# EAGLE library part RPCM4CONNECTOR (library RPCM4Connector)
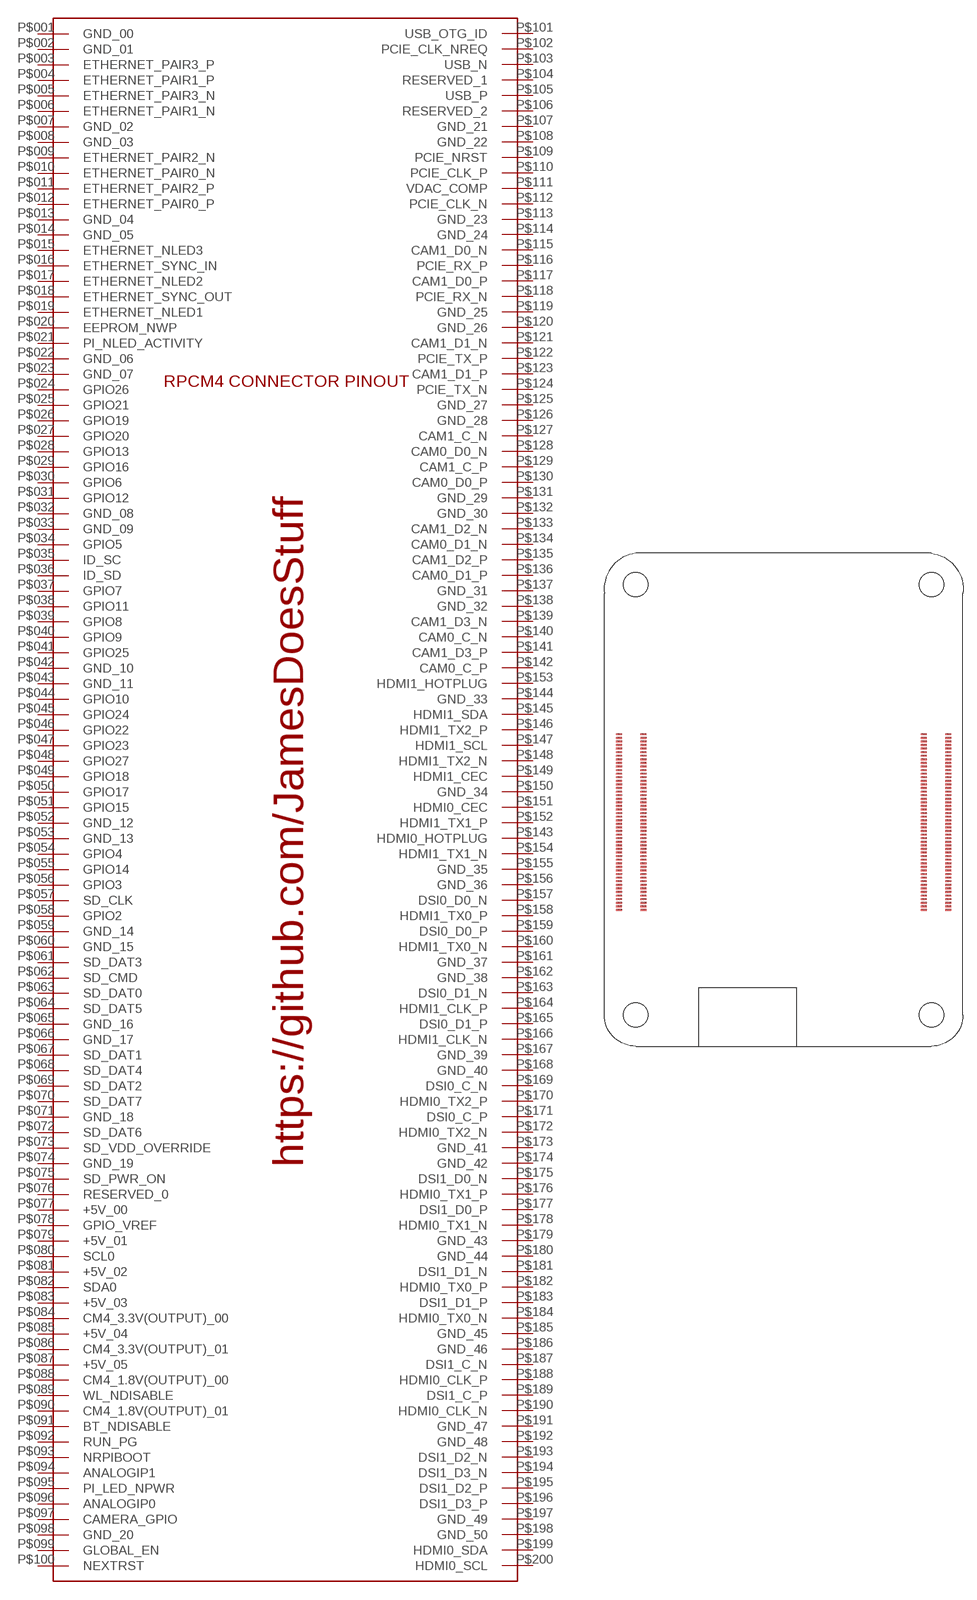
[diagram p0: symbol with the pads of RPCM4CONNECTOR; footprint RPCM4CONNECTOR]

Designator prefix -

## RPCM4CONNECTOR  [RPCM4CONNECTOR]
P$001  GND_00
P$002  GND_01
P$003  ETHERNET_PAIR3_P
P$004  ETHERNET_PAIR1_P
P$005  ETHERNET_PAIR3_N
P$006  ETHERNET_PAIR1_N
P$007  GND_02
P$008  GND_03
P$009  ETHERNET_PAIR2_N
P$010  ETHERNET_PAIR0_N
P$011  ETHERNET_PAIR2_P
P$012  ETHERNET_PAIR0_P
P$013  GND_04
P$014  GND_05
P$015  ETHERNET_NLED3
P$016  ETHERNET_SYNC_IN
P$017  ETHERNET_NLED2
P$018  ETHERNET_SYNC_OUT
P$019  ETHERNET_NLED1
P$020  EEPROM_NWP
P$021  PI_NLED_ACTIVITY
P$022  GND_06
P$023  GND_07
P$024  GPIO26
P$025  GPIO21
P$026  GPIO19
P$027  GPIO20
P$028  GPIO13
P$029  GPIO16
P$030  GPIO6
P$031  GPIO12
P$032  GND_08
P$033  GND_09
P$034  GPIO5
P$035  ID_SC
P$036  ID_SD
P$037  GPIO7
P$038  GPIO11
P$039  GPIO8
P$040  GPIO9
P$041  GPIO25
P$042  GND_10
P$043  GND_11
P$044  GPIO10
P$045  GPIO24
P$046  GPIO22
P$047  GPIO23
P$048  GPIO27
P$049  GPIO18
P$050  GPIO17
P$051  GPIO15
P$052  GND_12
P$053  GND_13
P$054  GPIO4
P$055  GPIO14
P$056  GPIO3
P$057  SD_CLK
P$058  GPIO2
P$059  GND_14
P$060  GND_15
P$061  SD_DAT3
P$062  SD_CMD
P$063  SD_DAT0
P$064  SD_DAT5
P$065  GND_16
P$066  GND_17
P$067  SD_DAT1
P$068  SD_DAT4
P$069  SD_DAT2
P$070  SD_DAT7
P$071  GND_18
P$072  SD_DAT6
P$073  SD_VDD_OVERRIDE
P$074  GND_19
P$075  SD_PWR_ON
P$076  RESERVED_0
P$077  +5V_00
P$078  GPIO_VREF
P$079  +5V_01
P$080  SCL0
P$081  +5V_02
P$082  SDA0
P$083  +5V_03
P$084  CM4_3.3V(OUTPUT)_00
P$085  +5V_04
P$086  CM4_3.3V(OUTPUT)_01
P$087  +5V_05
P$088  CM4_1.8V(OUTPUT)_00
P$089  WL_NDISABLE
P$090  CM4_1.8V(OUTPUT)_01
P$091  BT_NDISABLE
P$092  RUN_PG
P$093  NRPIBOOT
P$094  ANALOGIP1
P$095  PI_LED_NPWR
P$096  ANALOGIP0
P$097  CAMERA_GPIO
P$098  GND_20
P$099  GLOBAL_EN
P$100  NEXTRST
P$101  USB_OTG_ID
P$102  PCIE_CLK_NREQ
P$103  USB_N
P$104  RESERVED_1
P$105  USB_P
P$106  RESERVED_2
P$107  GND_21
P$108  GND_22
P$109  PCIE_NRST
P$110  PCIE_CLK_P
P$111  VDAC_COMP
P$112  PCIE_CLK_N
P$113  GND_23
P$114  GND_24
P$115  CAM1_D0_N
P$116  PCIE_RX_P
P$117  CAM1_D0_P
P$118  PCIE_RX_N
P$119  GND_25
P$120  GND_26
P$121  CAM1_D1_N
P$122  PCIE_TX_P
P$123  CAM1_D1_P
P$124  PCIE_TX_N
P$125  GND_27
P$126  GND_28
P$127  CAM1_C_N
P$128  CAM0_D0_N
P$129  CAM1_C_P
P$130  CAM0_D0_P
P$131  GND_29
P$132  GND_30
P$133  CAM1_D2_N
P$134  CAM0_D1_N
P$135  CAM1_D2_P
P$136  CAM0_D1_P
P$137  GND_31
P$138  GND_32
P$139  CAM1_D3_N
P$140  CAM0_C_N
P$141  CAM1_D3_P
P$142  CAM0_C_P
P$143  HDMI0_HOTPLUG
P$144  GND_33
P$145  HDMI1_SDA
P$146  HDMI1_TX2_P
P$147  HDMI1_SCL
P$148  HDMI1_TX2_N
P$149  HDMI1_CEC
P$150  GND_34
P$151  HDMI0_CEC
P$152  HDMI1_TX1_P
P$153  HDMI1_HOTPLUG
P$154  HDMI1_TX1_N
P$155  GND_35
P$156  GND_36
P$157  DSI0_D0_N
P$158  HDMI1_TX0_P
P$159  DSI0_D0_P
P$160  HDMI1_TX0_N
P$161  GND_37
P$162  GND_38
P$163  DSI0_D1_N
P$164  HDMI1_CLK_P
P$165  DSI0_D1_P
P$166  HDMI1_CLK_N
P$167  GND_39
P$168  GND_40
P$169  DSI0_C_N
P$170  HDMI0_TX2_P
P$171  DSI0_C_P
P$172  HDMI0_TX2_N
P$173  GND_41
P$174  GND_42
P$175  DSI1_D0_N
P$176  HDMI0_TX1_P
P$177  DSI1_D0_P
P$178  HDMI0_TX1_N
P$179  GND_43
P$180  GND_44
P$181  DSI1_D1_N
P$182  HDMI0_TX0_P
P$183  DSI1_D1_P
P$184  HDMI0_TX0_N
P$185  GND_45
P$186  GND_46
P$187  DSI1_C_N
P$188  HDMI0_CLK_P
P$189  DSI1_C_P
P$190  HDMI0_CLK_N
P$191  GND_47
P$192  GND_48
P$193  DSI1_D2_N
P$194  DSI1_D3_N
P$195  DSI1_D2_P
P$196  DSI1_D3_P
P$197  GND_49
P$198  GND_50
P$199  HDMI0_SDA
P$200  HDMI0_SCL

## Footprint RPCM4CONNECTOR (pad centres in mm)
smd 0.66 x 0.2: P$001 -18.355,34.8; P$002 -15.645,34.8; P$003 -18.355,34.4; P$004 -15.645,34.4; P$005 -18.355,34; P$006 -15.645,34; P$007 -18.355,33.6; P$008 -15.645,33.6; P$009 -18.355,33.2; P$010 -15.645,33.2; P$011 -18.355,32.8; P$012 -15.645,32.8; P$013 -18.355,32.4; P$014 -15.645,32.4; P$015 -18.355,32; P$016 -15.645,32; P$017 -18.355,31.6; P$018 -15.645,31.6; P$019 -18.355,31.2; P$020 -15.645,31.2; P$021 -18.355,30.8; P$022 -15.645,30.8; P$023 -18.355,30.4; P$024 -15.645,30.4; P$025 -18.355,30; P$026 -15.645,30; P$027 -18.355,29.6; P$028 -15.645,29.6; P$029 -18.355,29.2; P$030 -15.645,29.2; P$031 -18.355,28.8; P$032 -15.645,28.8; P$033 -18.355,28.4; P$034 -15.645,28.4; P$035 -18.355,28; P$036 -15.645,28; P$037 -18.355,27.6; P$038 -15.645,27.6; P$039 -18.355,27.2; P$040 -15.645,27.2; P$041 -18.355,26.8; P$042 -15.645,26.8; P$043 -18.355,26.4; P$044 -15.645,26.4; P$045 -18.355,26; P$046 -15.645,26; P$047 -18.355,25.6; P$048 -15.645,25.6; P$049 -18.355,25.2; P$050 -15.645,25.2; P$051 -18.355,24.8; P$052 -15.645,24.8; P$053 -18.355,24.4; P$054 -15.645,24.4; P$055 -18.355,24; P$056 -15.645,24; P$057 -18.355,23.6; P$058 -15.645,23.6; P$059 -18.355,23.2; P$060 -15.645,23.2; P$061 -18.355,22.8; P$062 -15.645,22.8; P$063 -18.355,22.4; P$064 -15.645,22.4; P$065 -18.355,22; P$066 -15.645,22; P$067 -18.355,21.6; P$068 -15.645,21.6; P$069 -18.355,21.2; P$070 -15.645,21.2; P$071 -18.355,20.8; P$072 -15.645,20.8; P$073 -18.355,20.4; P$074 -15.645,20.4; P$075 -18.355,20; P$076 -15.645,20; P$077 -18.355,19.6; P$078 -15.645,19.6; P$079 -18.355,19.2; P$080 -15.645,19.2; P$081 -18.355,18.8; P$082 -15.645,18.8; P$083 -18.355,18.4; P$084 -15.645,18.4; P$085 -18.355,18; P$086 -15.645,18; P$087 -18.355,17.6; P$088 -15.645,17.6; P$089 -18.355,17.2; P$090 -15.645,17.2; P$091 -18.355,16.8; P$092 -15.645,16.8; P$093 -18.355,16.4; P$094 -15.645,16.4; P$095 -18.355,16; P$096 -15.645,16; P$097 -18.355,15.6; P$098 -15.645,15.6; P$099 -18.355,15.2; P$100 -15.645,15.2; P$101 15.645,34.8; P$102 18.355,34.8; P$103 15.645,34.4; P$104 18.355,34.4; P$105 15.645,34; P$106 18.355,34; P$107 15.645,33.6; P$108 18.355,33.6; P$109 15.645,33.2; P$110 18.355,33.2; P$111 15.645,32.8; P$112 18.355,32.8; P$113 15.645,32.4; P$114 18.355,32.4; P$115 15.645,32; P$116 18.355,32; P$117 15.645,31.6; P$118 18.355,31.6; P$119 15.645,31.2; P$120 18.355,31.2; P$121 15.645,30.8; P$122 18.355,30.8; P$123 15.645,30.4; P$124 18.355,30.4; P$125 15.645,30; P$126 18.355,30; P$127 15.645,29.6; P$128 18.355,29.6; P$129 15.645,29.2; P$130 18.355,29.2; P$131 15.645,28.8; P$132 18.355,28.8; P$133 15.645,28.4; P$134 18.355,28.4; P$135 15.645,28; P$136 18.355,28; P$137 15.645,27.6; P$138 18.355,27.6; P$139 15.645,27.2; P$140 18.355,27.2; P$141 15.645,26.8; P$142 18.355,26.8; P$143 15.645,26.4; P$144 18.355,26.4; P$145 15.645,26; P$146 18.355,26; P$147 15.645,25.6; P$148 18.355,25.6; P$149 15.645,25.2; P$150 18.355,25.2; P$151 15.645,24.8; P$152 18.355,24.8; P$153 15.645,24.4; P$154 18.355,24.4; P$155 15.645,24; P$156 18.355,24; P$157 15.645,23.6; P$158 18.355,23.6; P$159 15.645,23.2; P$160 18.355,23.2; P$161 15.645,22.8; P$162 18.355,22.8; P$163 15.645,22.4; P$164 18.355,22.4; P$165 15.645,22; P$166 18.355,22; P$167 15.645,21.6; P$168 18.355,21.6; P$169 15.645,21.2; P$170 18.355,21.2; P$171 15.645,20.8; P$172 18.355,20.8; P$173 15.645,20.4; P$174 18.355,20.4; P$175 15.645,20; P$176 18.355,20; P$177 15.645,19.6; P$178 18.355,19.6; P$179 15.645,19.2; P$180 18.355,19.2; P$181 15.645,18.8; P$182 18.355,18.8; P$183 15.645,18.4; P$184 18.355,18.4; P$185 15.645,18; P$186 18.355,18; P$187 15.645,17.6; P$188 18.355,17.6; P$189 15.645,17.2; P$190 18.355,17.2; P$191 15.645,16.8; P$192 18.355,16.8; P$193 15.645,16.4; P$194 18.355,16.4; P$195 15.645,16; P$196 18.355,16; P$197 15.645,15.6; P$198 18.355,15.6; P$199 15.645,15.2; P$200 18.355,15.2
hole 2.7 at -16.5,3.5
hole 2.7 at 16.5,3.5
hole 2.7 at 16.5,51.5
hole 2.7 at -16.5,51.5